# Altium schematic symbol library Antena.SchLib: 9 symbols
Pins are listed as number, name and electrical type; pins without a type are passive.

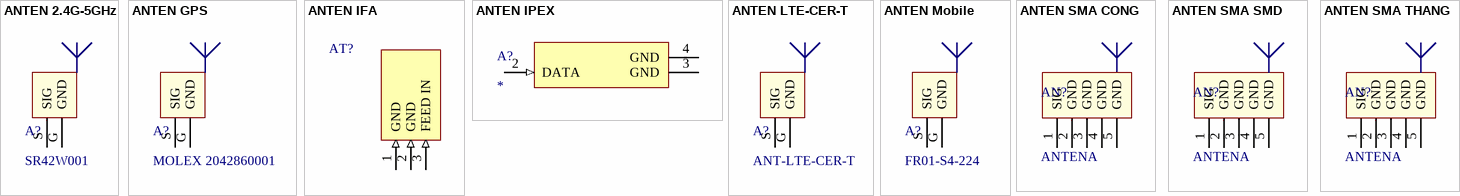
[diagram p0: symbols ANTEN 2.4G-5GHz to ANTEN SMA THANG]

## ANTEN 2.4G-5GHz
designator A?, comment SR42W001
RF ANT 2.4GHZ/5.4GHZ CHIP SLD
footprint ANTENOVA SR42W001
pins: G GND, S SIG

## ANTEN GPS
designator A?, comment MOLEX 2042860001
Ceramic GPS/BeiDou/GLONASS Antenna
footprint MOLEX 2042860001
pins: G GND, S SIG

## ANTEN IFA
designator AT?
Anten IFA- BLE RANGDONG
footprint Anten IFA
pins: 1 GND (in), 2 GND (in), 3 FEED IN (in)

## ANTEN IPEX
designator A?
footprint Anten_IPEX
pins: 2 DATA (in), 3 GND (power), 4 GND (power)

## ANTEN LTE-CER-T
designator A?, comment ANT-LTE-CER-T
RF ANT 829MHZ/1.94GHZ CHIP SLD
footprint LINX ANT-LTE-CER-T (Antenna, 5-leads, Body 37x5x5mm,  IPC Medium Density)
pins: G GND, S SIG

## ANTEN Mobile
designator A?, comment FR01-S4-224
824 MHz - 2.69 GHz, 1.8 dBi, 1.9 dBi 3 Band
footprint Fractus Antennas FR01-S4-224
pins: G GND, S SIG

## ANTEN SMA CONG
designator AN?, comment ANTENA
Generic Antenna
footprint DE ANTEN SMA CONG
pins: 1 SIG, 2 GND, 3 GND, 4 GND, 5 GND

## ANTEN SMA SMD
designator AN?, comment ANTENA
Generic Antenna
footprint De Anten SMA SMD
pins: 1 SIG, 2 GND, 3 GND, 4 GND, 5 GND

## ANTEN SMA THANG
designator AN?, comment ANTENA
Generic Antenna
footprint De Anten SMA SMD
footprint DE ANTEN SMA THANG
pins: 1 SIG, 2 GND, 3 GND, 4 GND, 5 GND